# Altium footprint library Discrete.PcbLib: 53 footprints (part 3 of 4)
Each footprint in its own frame and in the unit in brackets; x right, y up, seen from the top. Pads: shape width x height; smd on the part's side, far side on the other; paste and mask are expansions set on the pad; w line width, h text height; cw(c..) or ccw(c..) is an arc to the next point about the centre after c.
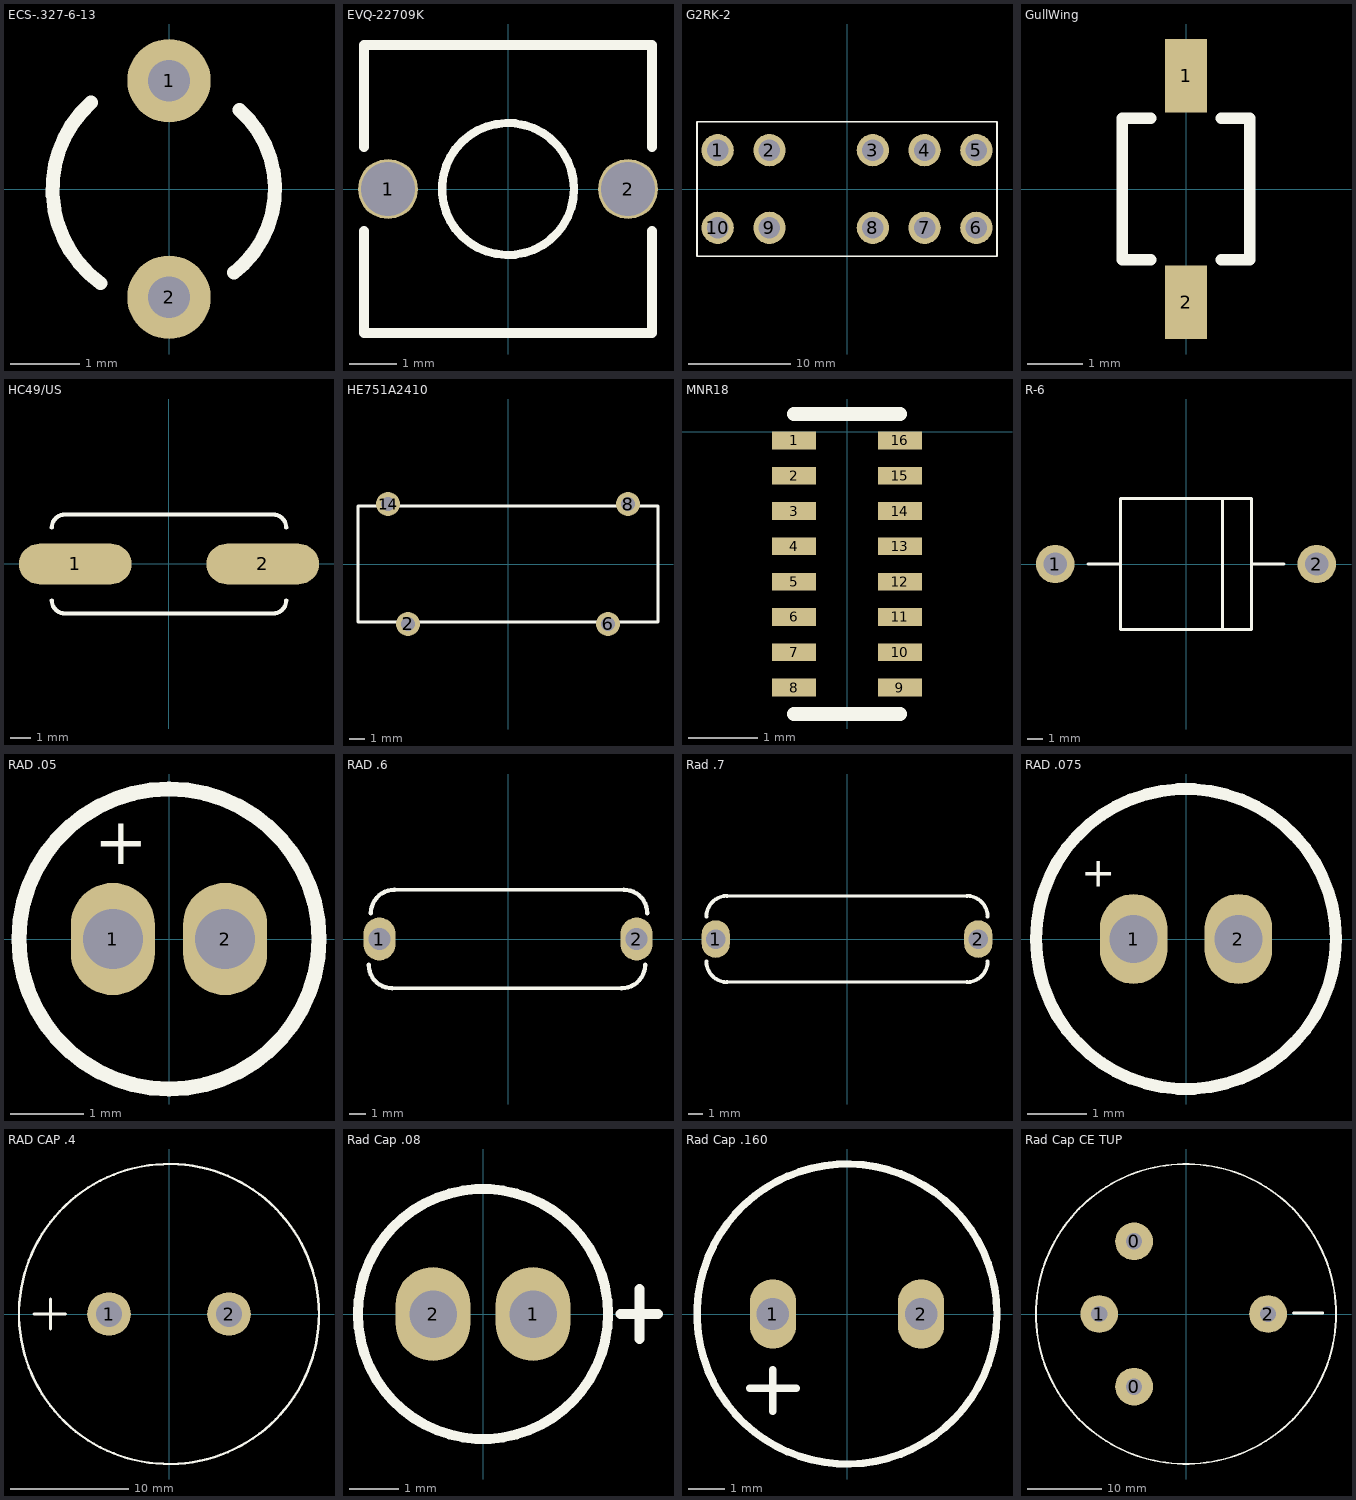
[diagram p2: the footprints below, top view; thin cyan lines are the x and y axes]

## ECS-.327-6-13 [mm]
pads (2):
  round 1.2 hole 0.6: 1(0,1.558) 2(0,-1.558)
Top Overlay:
  lines w0.2: -1.121,1.246 ccw(c0,0) -0.986,-1.355 ; 0.936,-1.203 ccw(c0,0) 1.012,1.139
3D body: height 9.16, standoff -1.61, extent -1.676,-1.725 1.524,1.725

## EVQ-22709K [mil]
pads (2):
  round 50 hole 45: 1(-100,0) 2(100,0)
Top Overlay:
  circle w7: c0,0 r55
  lines w8: -120,-35 -120,-120 120,-120 120,-35 ; -120,35 -120,120 120,120 120,35
3D body: height 133, standoff 0, extent -115,-115 115,115
3D body: height 375, standoff 0, extent -70,-70 69.45,69.72

## G2RK-2 [mil] "DPDT relay with latch"
height 1000
pads (10):
  round 125 hole 83: 1(-500,150) 2(-300,150) 3(100,150) 4(300,150) 5(500,150) 6(500,-150) 7(300,-150) 8(100,-150) 9(-300,-150) 10(-500,-150)
Top Overlay:
  lines w7: -580,-260 -580,260 580,260 580,-260 -580,-260

## GullWing [mil]
pads (2):
  rect 30x52 smd: 1(0,80) 2(0,-80)
Top Overlay:
  lines w8: -25,-50 -45,-50 -45,0 -45,50 -25,50 ; 25,-50 45,-50 45,0 45,50 25,50
3D body: height 111.86, standoff 1.07, extent -45.55,-83.13 45,83.14

## HC49/US [mil] "Specialized for HC-49S Crystal"
pads (2):
  oval 216x78 smd: 1(-180,0) 2(180,0)
Top Overlay:
  lines w8: -225,-70 ccw(c-200,-70) -200,-95 200,-95 ccw(c200,-70) 225,-70 ; -225,70 cw(c-200,70) -200,95 200,95 cw(c200,70) 225,70
3D body: height 150, standoff 0, extent -220,-85 215,85

## HE751A2410 [mil] "SPST relay"
height 300
pads (4):
  round 60 hole 35: 2(-250,-150) 6(250,-150) 8(300,150) 14(-300,150)
Top Overlay:
  lines w7: -375,-145 -375,145 375,145 375,-145 -375,-145

## MNR18 [mil] "Resistor array"
height 18
pads (16):
  rect 25x10 smd: 1(-30,-5) 2(-30,-25) 3(-30,-45) 4(-30,-65) 5(-30,-85) 6(-30,-105) 7(-30,-125) 8(-30,-145) 9(30,-145) 10(30,-125) 11(30,-105) 12(30,-85) 13(30,-65) 14(30,-45) 15(30,-25) 16(30,-5)
Top Overlay:
  lines w8: -30,-160 30,-160 ; -30,10 30,10

## R-6 [mil] "High Power Diode"
height 340
pads (2):
  round 100 hole 60: 1(-340,0) 2(340,0)
Top Overlay:
  lines w8: -255,0 -170,0 ; 95,-170 95,170 ; 170,0 255,0 ; -170,-170 -170,170 170,170 170,-170 -170,-170

## RAD .05 [mil]
height 300
pads (2):
  oval 45x60 hole 32: 1(-30,0) 2(30,0)
Top Overlay:
  circle w8: c0,0 r80.16
  text "+" at -40,40 h25

## RAD .6 [mil] "Radial"
height 475
pads (2):
  oval 75x100 hole 52: 1(-300,0) 2(300,0)
Top Overlay:
  lines w8: -270,-115 265,-115 ; -265,115 270,115
  lines w10: -325,-60 ccw(c-270,-60) -270,-115 ; -320,60 cw(c-265,60) -265,115 ; 265,-115 ccw(c265,-60) 320,-60 ; 270,115 cw(c270,60) 325,60

## Rad .7 [mil] "Radial Cap"
height 500
pads (2):
  oval 75x100 hole 52: 1(-350,0) 2(350,0)
Top Overlay:
  lines w8: -320,-115 320,-115 ; -320,115 320,115
  lines w10: -375,-60 ccw(c-320,-60) -320,-115 ; -375,60 cw(c-320,60) -320,115 ; 320,-115 ccw(c320,-60) 375,-60 ; 320,115 cw(c320,60) 375,60

## RAD .075 [mil]
height 400
pads (2):
  oval 45x60 hole 32: 1(-35,0) 2(35,0)
Top Overlay:
  circle w8: c0,0 r100.12
  text "+" at -70,35 h20

## RAD CAP .4 [mil] "Capacitor"
height 1380
pads (2):
  round 145 hole 86: 1(-200,0) 2(200,0)
Top Overlay:
  circle w8: c0,0 r500
  lines w10: -450,0 -345,0 ; -395,-50 -395,50

## Rad Cap .08 [mil] "Electrolytic Cap"
height 460
pads (2):
  oval 60x75 hole 38: 1(40,0) 2(-40,0)
Top Overlay:
  circle w8: c0,0 r100
  lines w8: 110,0 140,0 ; 125,-20 125,20

## Rad Cap .160 [mil] "Radial Cap .160 x .450"
height 450
pads (2):
  oval 50x75 hole 35: 1(-80,0) 2(80,0)
Top Overlay:
  circle w8: c0,0 r162
  lines w8: -105,-80 -55,-80 ; -80,-105 -80,-60

## Rad Cap CE TUP [mil] "Power Cap ECE-T1JP223FA"
height 3175
pads (4):
  round 200 hole 86: 0(-275,-385) 0(-275,385) 1(-460,0) 2(435,0)
Top Overlay:
  circle w10: c0,0 r795
  lines w15: 570,5 725,5